# Altium schematic symbol library fci-ffc-fpc.SchLib: 3 symbols
Pins are listed as number, name and electrical type; pins without a type are passive.

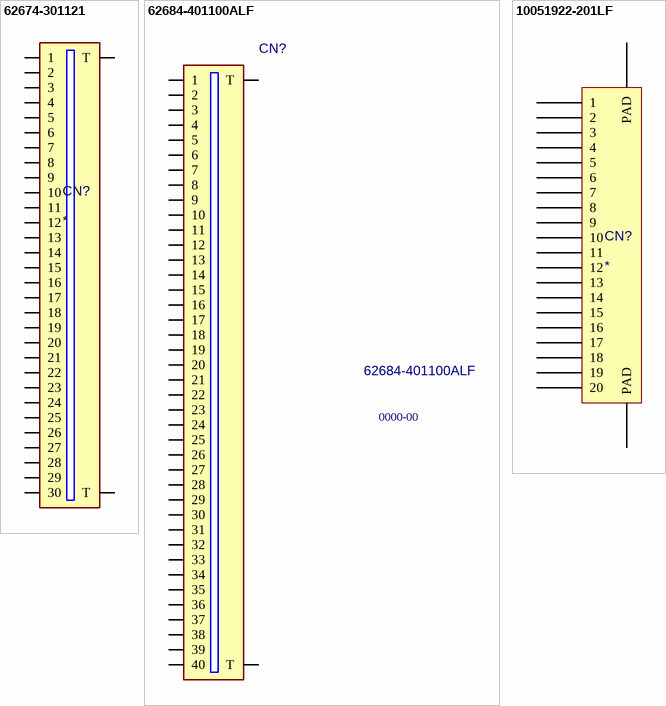
[diagram p0: symbols 62674-301121 to 10051922-201LF]

## 62674-301121
designator CN?
PN: *; Value: *; Package: *; ExtraInfo: *
footprint 62674-301121 (0.5mm pitch Connector for FPC - 30 contacts)
pins: 1, 2, 3, 4, 5, 6, 7, 8, 9, 10, 11, 12, 13, 14, 15, 16, 17, 18, 19, 20, 21, 22, 23, 24, 25, 26, 27, 28, 29, 30, 31 T, 32 T

## 62684-401100ALF
designator CN?, comment 0000-00  value 62684-401100ALF
OPU Series, 40 Pos 0.5 mm (0.02 in.) Pitch FPC/FFC Connector, Side Entry, Lower Side Contact, SMT, ZIF; MF: FCI; Package: SMT; PN: 0000-00; ExtraInfo: *
footprint 62684-401100ALF (OPU Series, 40 Pos 0.5 mm (0.02 in.) Pitch FPC/FFC Connector, Side Entry, Lower Side Contact, SMT, ZIF)
footprint 62684-401100ALF-R (OPU Series, 40 Pos 0.5 mm (0.02 in.) Pitch FPC/FFC Connector, Side Entry, Lower Side Contact, SMT, ZIF, Reverse)
pins: 1, 2, 3, 4, 5, 6, 7, 8, 9, 10, 11, 12, 13, 14, 15, 16, 17, 18, 19, 20, 21, 22, 23, 24, 25, 26, 27, 28, 29, 30, 31, 32, 33, 34, 35, 36, 37, 38, 39, 40, 41 T, 42 T

## 10051922-201LF
designator CN?
PN: *; Value: *; Package: *; ExtraInfo: *
footprint 10051922-201LF (0.5mm pitch Connector for FPC - 20 contacts)
pins: 1, 2, 3, 4, 5, 6, 7, 8, 9, 10, 11, 12, 13, 14, 15, 16, 17, 18, 19, 20, 21 PAD, 22 PAD